# Altium schematic symbol library lmr36015fscqrnxrq1.SchLib: 1 symbol
Pins are listed as number, name and electrical type; pins without a type are passive.

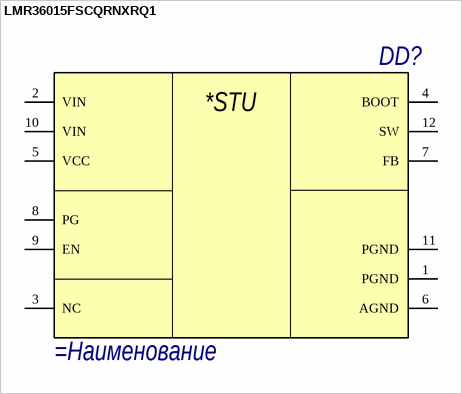
[diagram p0: symbol LMR36015FSCQRNXRQ1]

## LMR36015FSCQRNXRQ1
designator DD?
=Описание
footprint LMR36015-Q1
pins: 1 PGND, 2 VIN, 3 NC, 4 BOOT, 5 VCC, 6 AGND, 7 FB, 8 PG, 9 EN, 10 VIN, 11 PGND, 12 SW
text: *STU